# Altium footprint library HVPowerModule_Old.PcbLib: 20 footprints (part 2 of 2)
Each footprint in its own frame and in the unit in brackets; x right, y up, seen from the top. Pads: shape width x height; smd on the part's side, far side on the other; paste and mask are expansions set on the pad; w line width, h text height; cw(c..) or ccw(c..) is an arc to the next point about the centre after c.
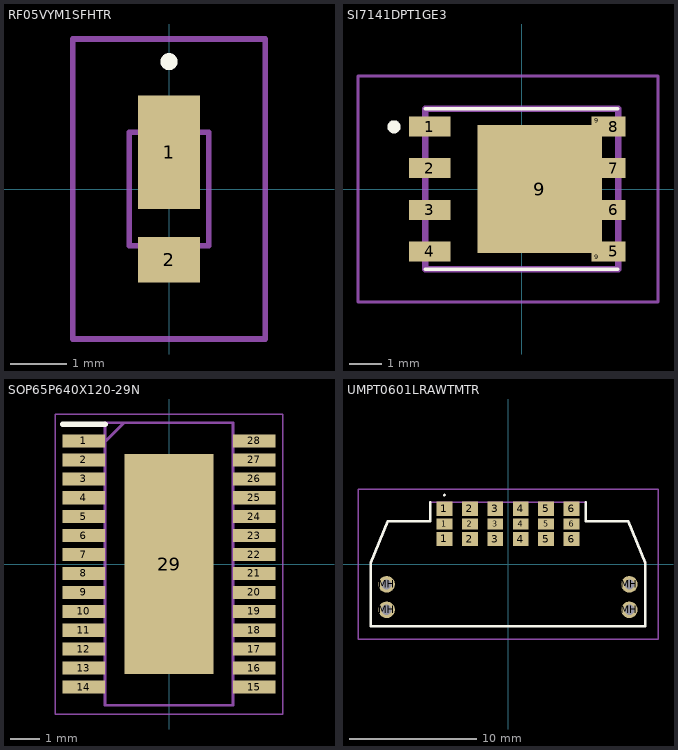
[diagram p1: the footprints below, top view; thin cyan lines are the x and y axes]

## RF05VYM1SFHTR [mm]
pads (2):
  rect 1.1x2 smd: 1(0,0.65)
  rect 1.1x0.8 smd: 2(0,-1.25)
Top Overlay:
  lines w0.2: 0,2.2 cw(c0,2.25) 0,2.3 ; 0,2.2 ccw(c0,2.25) 0,2.3 ; 0,2.2 0,2.3
Mechanical 13:
  lines w0.1: -0.7,-1 0.7,-1 0.7,1 -0.7,1 -0.7,-1
Mechanical 15:
  lines w0.1: -1.7,-2.65 1.7,-2.65 1.7,2.65 -1.7,2.65 -1.7,-2.65
3D body "RF05VYM1SFHTR.stp": height 0.8, standoff 0, extent -0.7,-1.25 0.7,1.25

## SI7141DPT1GE3 [mm]
pads (11):
  rect 1.27x0.61 smd: 1(-2.81,1.905) 2(-2.81,0.635) 3(-2.81,-0.635) 4(-2.81,-1.905)
  rect 0.71x0.61 smd: 5(2.81,-1.905) 6(2.81,-0.635) 7(2.81,0.635) 8(2.81,1.905)
  rect 3.81x3.91 smd: 9(0.55,0)
  rect 0.32x0.255 smd: 9(2.3,-2.083) 9(2.3,2.083)
Top Overlay:
  lines w0.1: -2.945,-2.45 2.945,-2.45 ; -2.945,2.45 2.945,2.45
  lines w0.2: -3.9,1.8 cw(c-3.9,1.9) -3.9,2 cw(c-3.9,1.9) -3.9,1.8
Mechanical 13:
  lines w0.2: -2.945,-2.45 2.945,-2.45 2.945,2.45 -2.945,2.45 -2.945,-2.45
Mechanical 15:
  lines w0.1: -5,-3.45 4.165,-3.45 4.165,3.45 -5,3.45 -5,-3.45
3D body "SIR186LDP-T1-RE3.stp": height 1.22, standoff 0, extent -3.384,-2.45 3.104,2.45

## SOP65P640X120-29N [mm]
pads (29):
  rect 1.45x0.45 smd: 1(-2.925,4.225) 2(-2.925,3.575) 3(-2.925,2.925) 4(-2.925,2.275) 5(-2.925,1.625) 6(-2.925,0.975) 7(-2.925,0.325) 8(-2.925,-0.325) 9(-2.925,-0.975) 10(-2.925,-1.625) 11(-2.925,-2.275) 12(-2.925,-2.925) 13(-2.925,-3.575) 14(-2.925,-4.225) 15(2.925,-4.225) 16(2.925,-3.575) 17(2.925,-2.925) 18(2.925,-2.275) 19(2.925,-1.625) 20(2.925,-0.975) 21(2.925,-0.325) 22(2.925,0.325) 23(2.925,0.975) 24(2.925,1.625) 25(2.925,2.275) 26(2.925,2.925) 27(2.925,3.575) 28(2.925,4.225)
  rect 3.05x7.56 smd: 29(0,0)
Top Overlay:
  lines w0.2: -3.65,4.8 -2.2,4.8
Mechanical 13:
  lines w0.1: -2.2,4.2 -1.55,4.85 ; -2.2,-4.85 -2.2,4.85 2.2,4.85 2.2,-4.85 -2.2,-4.85
Mechanical 15:
  lines w0.05: -3.9,-5.15 -3.9,5.15 3.9,5.15 3.9,-5.15 -3.9,-5.15
3D body "LTC3892EFE-1#PBF.stp": height 1.2, standoff 0, extent -3.2,-4.85 3.2,4.85

## UMPT0601LRAWTMTR [mm]
pads (22):
  rect 1.25x1.12 smd: 1(-5,2) 1(-5,4.365) 2(-3,1.985) 2(-3,4.365) 3(-1,1.985) 3(-1,4.365) 4(1,1.985) 4(1,4.365) 5(3,1.985) 5(3,4.365) 6(5,1.985) 6(5,4.365)
  rect 1.25x0.86 smd: 1(-5,3.175) 2(-3,3.175) 3(-1,3.175) 4(1,3.175) 5(3,3.175) 6(5,3.175)
  round 1.3 hole 0.8: MH(-9.55,-3.575) MH(-9.55,-1.575) MH(9.55,-3.575) MH(9.55,-1.575)
Top Overlay:
  lines w0.1: -5,5.4 cw(c-5,5.45) -5,5.5 cw(c-5,5.45) -5,5.4
  lines w0.2: -6.1,4.875 -6.1,3.39 -9.45,3.39 -10.8,0.125 -10.8,-4.875 10.8,-4.875 10.8,0.125 9.45,3.39 6.1,3.39 6.1,4.875
Mechanical 13:
  lines w0.1: -10.8,-4.875 -10.8,0.125 -9.45,3.39 -6.1,3.39 -6.1,4.875 6.1,4.875 6.1,3.39 9.45,3.39 10.8,0.125 10.8,-4.875 -10.8,-4.875
Mechanical 15:
  lines w0.1: -11.8,-5.875 -11.8,5.925 11.8,5.925 11.8,-5.875 -11.8,-5.875
3D body "UMPT-06-01-L-RA-WT-M-TR.stp": height 9.8, standoff -5, extent -10.8,-4.875 10.8,4.875